# Altium schematic symbol library ADXL373.SchLib: 1 symbol
Pins are listed as number, name and electrical type; pins without a type are passive.

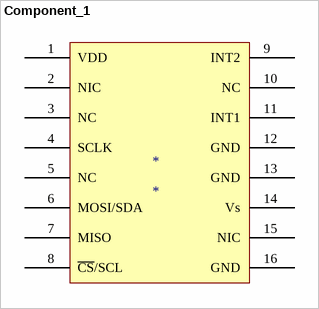
[diagram p0: symbol Component_1]

## Component_1
designator *
footprint FP-CC-16-3-MFG
pins: 1 VDD, 2 NIC, 3 NC, 4 SCLK, 5 NC, 6 MOSI/SDA, 7 MISO, 8 ~{CS}/SCL, 9 INT2, 10 NC, 11 INT1, 12 GND, 13 GND, 14 Vs, 15 NIC, 16 GND